# Altium footprint library Connectors.PcbLib: 10 footprints
Each footprint in its own frame and in the unit in brackets; x right, y up, seen from the top. Pads: shape width x height; smd on the part's side, far side on the other; paste and mask are expansions set on the pad; w line width, h text height; cw(c..) or ccw(c..) is an arc to the next point about the centre after c.
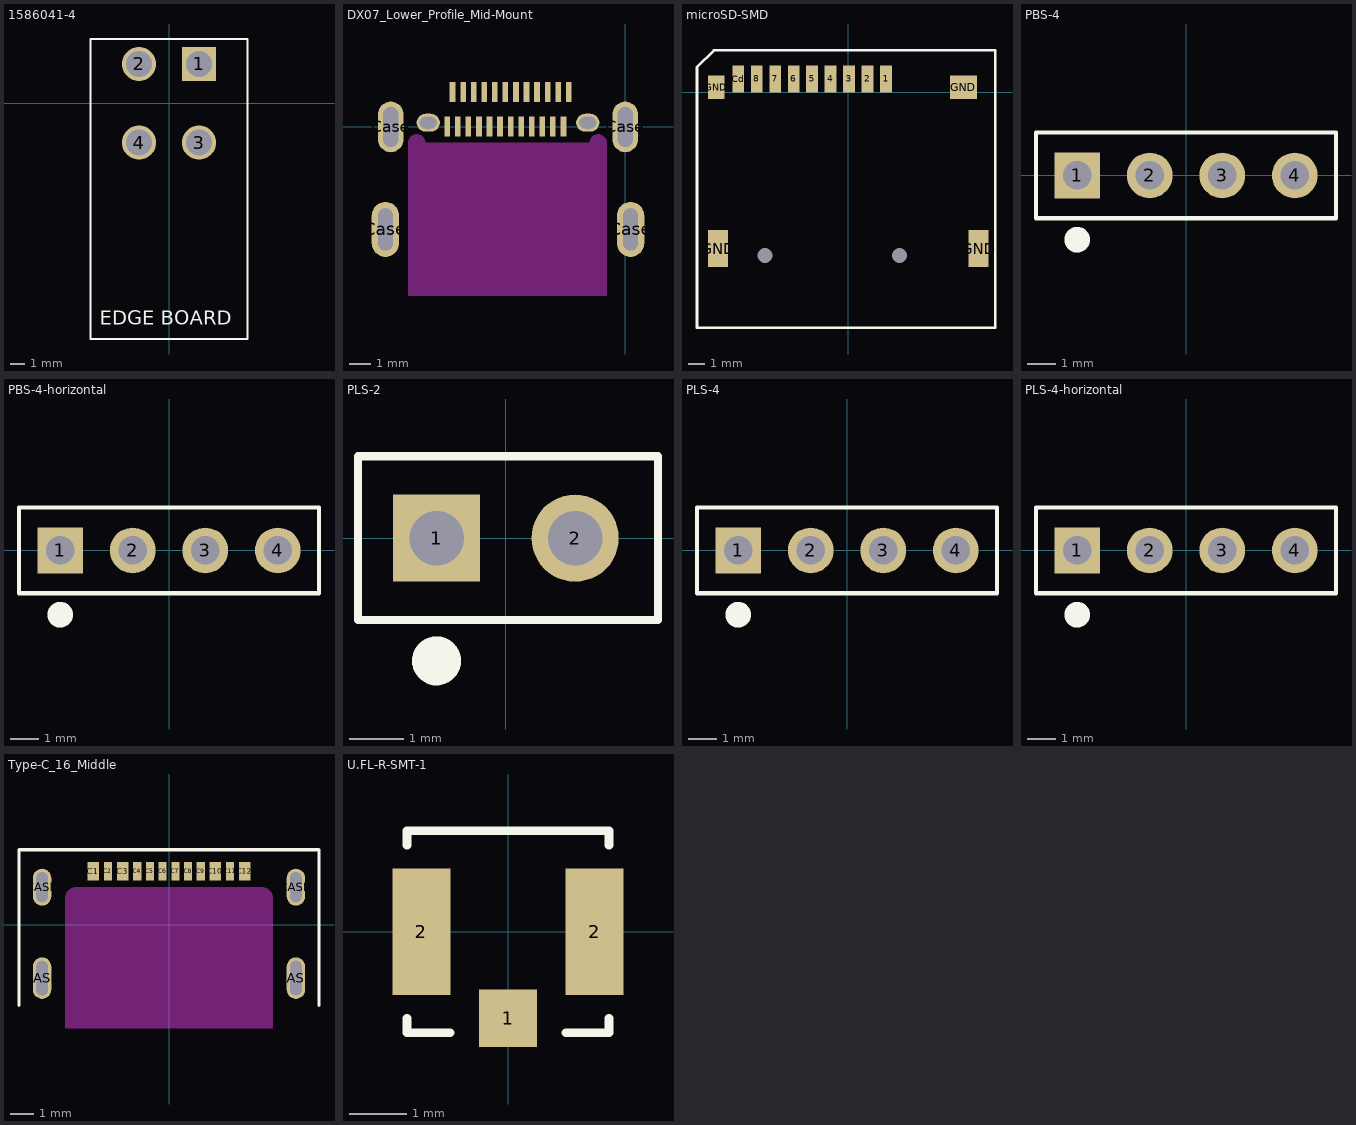
[diagram p0: the footprints below, top view; thin cyan lines are the x and y axes]

## 1586041-4 [mm]
pads (4):
  rect 2.4x2.4 hole 1.8: 1(2.1,2.75)
  round 2.4 hole 1.8: 2(-2.1,2.75) 3(2.1,-2.75) 4(-2.1,-2.75)
Top Overlay:
  lines w0.15: -5.5,-16.5 5.5,-16.5 5.5,4.5 -5.5,4.5 -5.5,-16.5
  text "EDGE BOARD" at -4.832,-15.5 h1
3D body "1586041-4.stp": height 11.8, standoff -3, extent -4.8,-17 5.299,3.135

## DX07_Lower_Profile_Mid-Mount [mm]
pads (30):
  rect 0.27x0.95 smd: A1(-8.175,1.65) A2(-7.675,1.65) A3(-7.175,1.65) A4(-6.675,1.65) A5(-6.175,1.65) A6(-5.675,1.65) A7(-5.175,1.65) A8(-4.675,1.65) A9(-4.175,1.65) A10(-3.675,1.65) A11(-3.175,1.65) A12(-2.675,1.65) B1(-2.925,0.025) B2(-3.425,0.025) B3(-3.925,0.025) B4(-4.425,0.025) B5(-4.925,0.025) B6(-5.425,0.025) B7(-5.925,0.025) B8(-6.425,0.025) B9(-6.925,0.025) B10(-7.425,0.025) B11(-7.925,0.025) B12(-8.425,0.025)
  oval 1.3x2.6 hole 0.7 slot 2 at 90 deg: Case(-11.35,-4.85) Case(0.25,-4.85)
  oval 1.2x2.4 hole 0.7 slot 1.9 at 90 deg: Case(-11.1,0) Case(0,0)
  oval 1.1x0.85 hole 0.55 slot 0.8 at 0 deg: ""(-9.325,0.2) ""(-1.775,0.2)
Keep-Out Layer:
  board cut-out: -10.27,-8 -10.27,-0.75 -10.27,-0.67 -10.209,-0.523 -10.097,-0.411 -9.95,-0.35 -9.87,-0.35 -9.79,-0.35 -9.643,-0.411 -9.531,-0.523 -9.47,-0.67 -9.47,-0.75 -1.68,-0.75 -1.68,-0.67 -1.619,-0.523 -1.507,-0.411 -1.36,-0.35 -1.28,-0.35 -1.2,-0.35 -1.053,-0.411 -0.941,-0.523 -0.88,-0.67 -0.88,-0.75 -0.88,-8
3D body "Type-C_DX07B024JJ3R1600.STEP": height 1.65, standoff -1.64, extent -11.525,-7.025 0.475,1.875

## microSD-SMD [mm]
pads (15):
  rect 0.7x1.6 smd mask+0.09: 1(2.25,0.8) 2(1.15,0.8) 3(0.05,0.8) 4(-1.05,0.8) 5(-2.15,0.8) 6(-3.25,0.8) 7(-4.35,0.8) 8(-5.45,0.8) Cd(-6.55,0.8)
  rect 1x1.4 smd: GND(-7.85,0.3)
  rect 1.2x2.2 smd: GND(-7.75,-9.3) GND(7.75,-9.3)
  rect 1.6x1.4 smd: GND(6.85,0.3)
  rect 0x0 / inner rect 0x0 / far side round 0 hole 0.9: ""(-4.95,-9.7)
  rect 0x0 / inner rect 0x0 / far side round 0 hole 0.9 unplated: ""(3.05,-9.7)
Top Overlay:
  lines w0.15: -9,-14 8.75,-14 8.75,2.5 -8,2.5 -9,1.5 -9,-14
3D body "microSD-112J-TDAR-R01.stp": height 1.95, standoff -0.5, extent -8.025,-13.701 8.075,1.301

## PBS-4 [mm]
pads (4):
  rect 1.6x1.6 hole 1: 1(-3.81,0)
  round 1.6 hole 1: 2(-1.27,0) 3(1.27,0) 4(3.81,0)
Top Overlay:
  circle w0.5: c-3.81,-2.25 r0.2
  lines w0.15: -5.25,-1.5 5.25,-1.5 5.25,1.5 -5.25,1.5 -5.25,-1.5
3D body "PBS-4.step": height 8.5, standoff -3, extent -5.08,-1.27 5.08,1.27

## PBS-4-horizontal [mm]
pads (4):
  rect 1.6x1.6 hole 1: 1(-3.81,0)
  round 1.6 hole 1: 2(-1.27,0) 3(1.27,0) 4(3.81,0)
Top Overlay:
  circle w0.5: c-3.81,-2.25 r0.2
  lines w0.15: -5.25,-1.5 -5.25,1.5 5.25,1.5 5.25,-1.5 -5.25,-1.5
3D body "PBS-4R.step": height 2.74, standoff -3.1, extent -5.08,-0.2 5.08,10

## PLS-2 [mm]
pads (2):
  rect 1.6x1.6 hole 1: 1(-1.27,0)
  round 1.6 hole 1: 2(1.27,0)
Top Overlay:
  circle w0.5: c-1.27,-2.25 r0.2
  lines w0.15: -2.71,-1.5 2.79,-1.5 2.79,1.5 -2.71,1.5 -2.71,-1.5
3D body "PLS-2.step": height 9, standoff -2.5, extent -2.525,-1.154 2.525,1.25

## PLS-4 [mm]
pads (4):
  rect 1.6x1.6 hole 1: 1(-3.81,0)
  round 1.6 hole 1: 2(-1.27,0) 3(1.27,0) 4(3.81,0)
Top Overlay:
  circle w0.5: c-3.81,-2.25 r0.2
  lines w0.15: -5.25,-1.5 -5.25,1.5 5.25,1.5 5.25,-1.5 -5.25,-1.5
3D body "PLS-4.stp": height 8.6, standoff -3, extent -5.08,-1.27 5.08,1.27

## PLS-4-horizontal [mm]
pads (4):
  rect 1.6x1.6 hole 1: 1(-3.81,0)
  round 1.6 hole 1: 2(-1.27,0) 3(1.27,0) 4(3.81,0)
Top Overlay:
  circle w0.5: c-3.81,-2.25 r0.2
  lines w0.15: -5.25,-1.5 -5.25,1.5 5.25,1.5 5.25,-1.5 -5.25,-1.5
3D body "PLS-4R-D1.step": height 2.54, standoff -3, extent -5.08,-0.32 5.08,10.04

## Type-C_16_Middle [mm]
pads (16):
  rect 0.5x0.8 smd mask+0.07: C1(-3.28,2.32) C3(-2.01,2.32) C10(2.01,2.32) C12(3.28,2.32)
  rect 0.35x0.8 smd mask+0.07: C2(-2.65,2.32) C4(-1.375,2.32) C5(-0.825,2.32) C6(-0.275,2.32) C7(0.275,2.32) C8(0.825,2.32) C9(1.375,2.32) C11(2.65,2.32)
  oval 0.8x1.8 hole 0.5 slot 1.5 at 90 deg: CASE(-5.5,-2.32) CASE(5.5,-2.32)
  oval 0.8x1.6 hole 0.5 slot 1.3 at 90 deg: CASE(-5.5,1.62) CASE(5.5,1.62)
Top Overlay:
  lines w0.15: -6.5,-3.5 -6.5,3.25 6.5,3.25 6.5,-3.5
Keep-Out Layer:
  board cut-out: -4.5,-4.5 -4.5,1.12 -4.5,1.219 -4.424,1.403 -4.283,1.544 -4.099,1.62 -4,1.62 4,1.62 4.099,1.62 4.283,1.544 4.424,1.403 4.5,1.219 4.5,1.12 4.5,-4.5

## U.FL-R-SMT-1 [mm]
pads (3):
  rect 1x1 smd: 1(0,-1.5)
  rect 1x2.2 smd: 2(-1.5,0) 2(1.5,0)
Top Overlay:
  lines w0.15: -1.75,-1.5 -1.75,-1.75 -1,-1.75 ; -1.75,1.5 -1.75,1.75 1.75,1.75 1.75,1.5 ; 1,-1.75 1.75,-1.75 1.75,-1.5
3D body "U_FL-R-SMT(10).step": height 1.25, standoff 0, extent -1.5,-1.55 1.5,1.55